# Altium footprint library Battery.PcbLib: 59 footprints (part 1 of 4)
Each footprint in its own frame and in the unit in brackets; x right, y up, seen from the top. Pads: shape width x height; smd on the part's side, far side on the other; paste and mask are expansions set on the pad; w line width, h text height; cw(c..) or ccw(c..) is an arc to the next point about the centre after c.
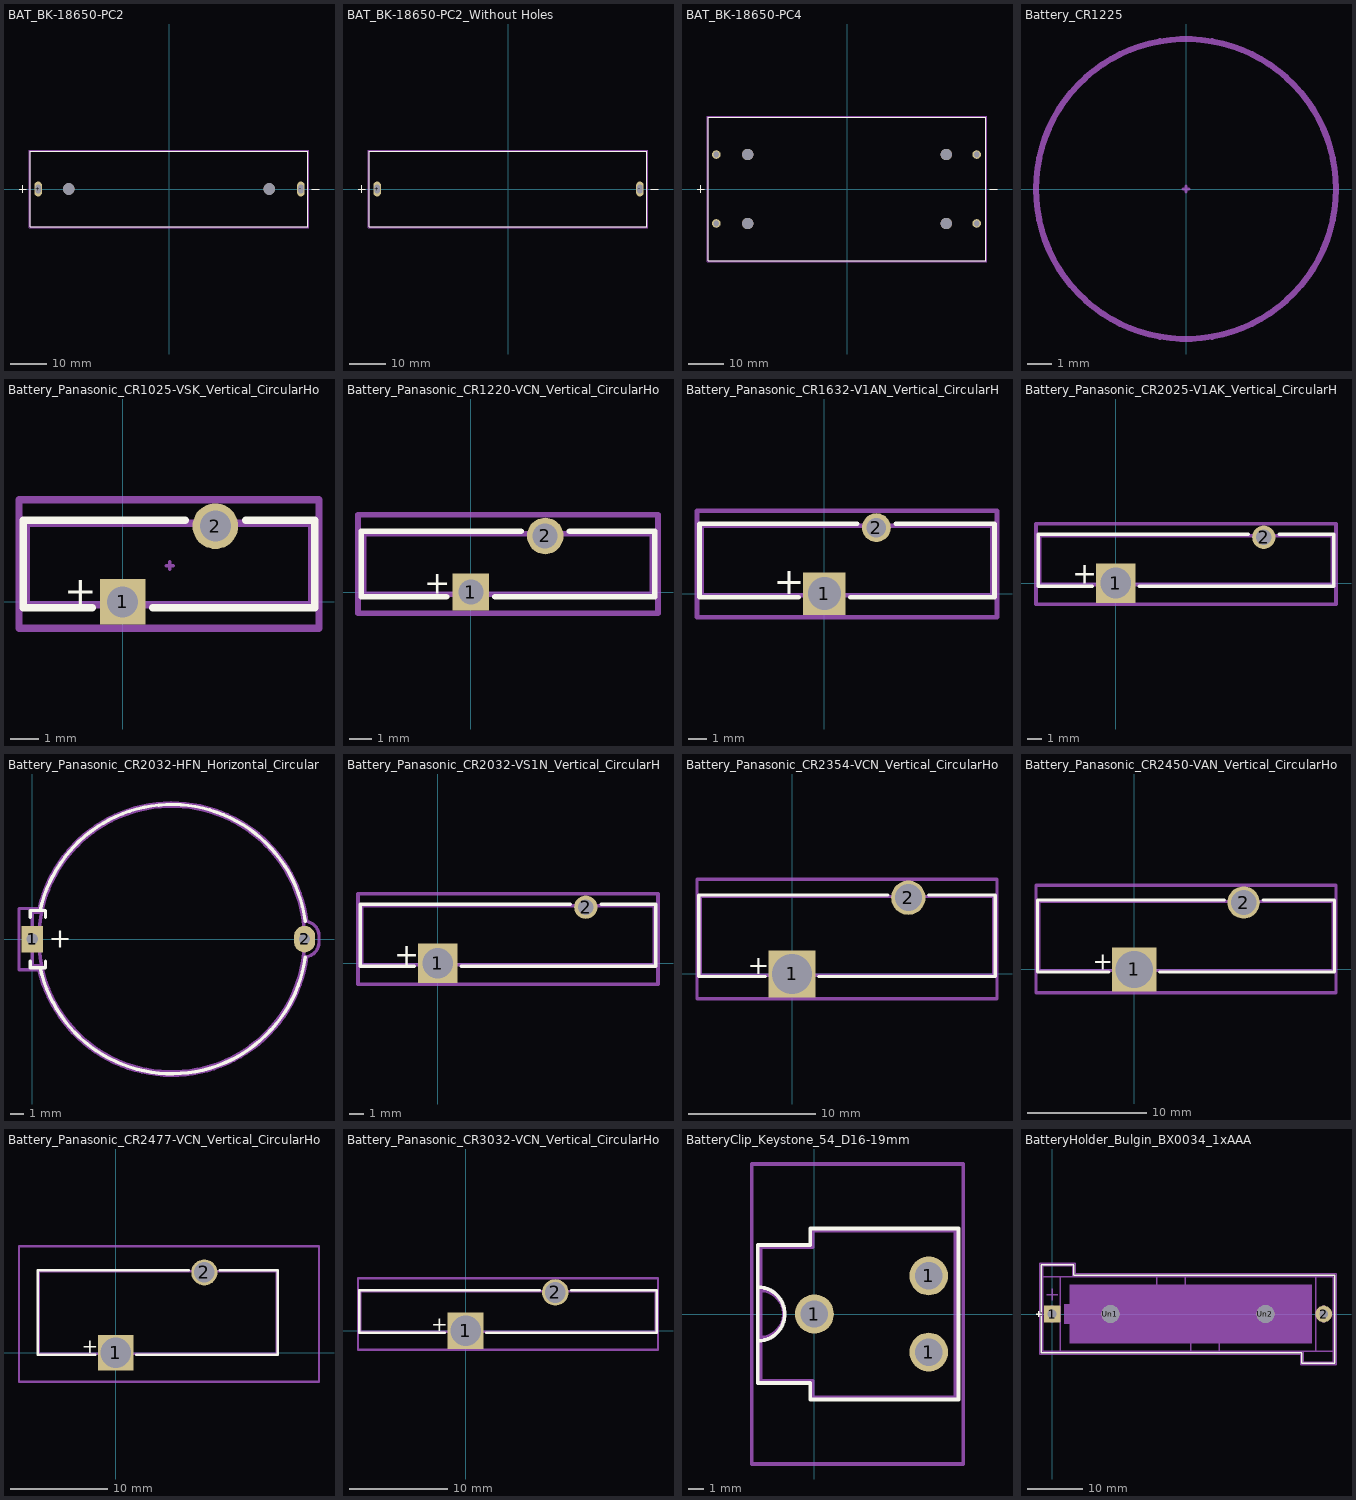
[diagram p0: the footprints below, top view; thin cyan lines are the x and y axes]

## BAT_BK-18650-PC2 [mm]
pads (4):
  rrect100% 2.07x4.14 hole 2.4 slot 1.38 at 0 deg: +(-36.3,0) -(36.6,0)
  round 3.2 hole 3.2: Un1(-27.805,0) Un2(27.81,0)
F.SilkS:
  lines w0.254: -41.63,0 -39.63,0 ; -40.63,-1 -40.63,1 ; 39.63,0 41.63,0 ; -38.48,-10.49 38.48,-10.49 38.48,10.49 -38.48,10.49 -38.48,-10.49
Top Assembly:
  lines w0.254: -41.63,0 -39.63,0 ; -40.63,-1 -40.63,1 ; 39.63,0 41.63,0 ; -38.48,-10.49 38.48,-10.49 38.48,10.49 -38.48,10.49 -38.48,-10.49
Top Courtyard:
  lines w0.254: -38.73,-10.74 38.73,-10.74 38.73,10.74 -38.73,10.74 -38.73,-10.74

## BAT_BK-18650-PC2_Without Holes [mm]
pads (2):
  rrect100% 2.07x4.14 hole 2.4 slot 1.38 at 0 deg: +(-36.3,0) -(36.6,0)
F.SilkS:
  lines w0.254: -41.63,0 -39.63,0 ; -40.63,-1 -40.63,1 ; 39.63,0 41.63,0 ; -38.48,-10.49 -38.48,10.49 38.48,10.49 38.48,-10.49 -38.48,-10.49
Top Assembly:
  lines w0.254: -41.63,0 -39.63,0 ; -40.63,-1 -40.63,1 ; 39.63,0 41.63,0 ; -38.48,-10.49 -38.48,10.49 38.48,10.49 38.48,-10.49 -38.48,-10.49
Top Courtyard:
  lines w0.254: -38.73,-10.74 -38.73,10.74 38.73,10.74 38.73,-10.74 -38.73,-10.74

## BAT_BK-18650-PC4 [mm]
pads (8):
  round 2.4 hole 1.6: 1+(-36.6,9.65) 1-(36.3,9.65) 2+(-36.6,-9.65) 2-(36.3,-9.65)
  round 3.2 hole 3.2: Un1(-27.81,9.65) Un2(-27.81,-9.65) Un3(27.81,9.65) Un4(27.81,-9.65)
F.SilkS:
  lines w0.254: -42,0 -40,0 ; -41,-1 -41,1 ; 40,0 42,0 ; -38.85,-20.105 -38.85,20.105 38.85,20.105 38.85,-20.105 -38.85,-20.105
Top Assembly:
  lines w0.254: -42,0 -40,0 ; -41,-1 -41,1 ; 40,0 42,0 ; -38.85,-20.105 -38.85,20.105 38.85,20.105 38.85,-20.105 -38.85,-20.105
Top Courtyard:
  lines w0.254: -39.1,-20.355 -39.1,20.355 39.1,20.355 39.1,-20.355 -39.1,-20.355

## Battery_CR1225 [mm]
Top Component Center:
  lines w0.127: -0.127,0 0.127,0 ; 0,-0.127 0,0.127
Top Assembly:
  circle w0.254: c0,0 r6.25
Top Designator:
  text ".Designator" at -7.618,-0.508 h1.52
3D body "Battery_CR1225.step": height 2.5, standoff 0, extent -6.25,-6.238 6.25,6.238

## Battery_Panasonic_CR1025-VSK_Vertical_CircularHoles [mm]
pads (2):
  rect 1.6x1.6 hole 1.09: 1(0,0)
  round 1.6 hole 1.09: 2(3.25,2.65)
F.SilkS:
  lines w0.254: -1.06,-0.21 -3.485,-0.21 -3.485,2.86 2.19,2.86 ; 1.06,-0.21 6.735,-0.21 6.735,2.86 4.31,2.86
  text "+" at -2.038,-0.078 h1
Top Component Center:
  lines w0.127: 1.524,1.27 1.778,1.27 ; 1.651,1.143 1.651,1.397
Top Assembly:
  lines w0.254: -3.375,-0.1 -3.375,2.75 6.625,2.75 6.625,-0.1 -3.375,-0.1
  text "'.Designator'" at -2.422,0.46 h1
Top Courtyard:
  lines w0.254: -3.63,-0.93 -3.63,3.58 6.88,3.58 6.88,-0.93 -3.63,-0.93
Top Designator:
  text ".Designator" at -5.993,0.817 h1.52

## Battery_Panasonic_CR1220-VCN_Vertical_CircularHoles [mm]
pads (2):
  rect 1.6x1.6 hole 1.09: 1(0,0)
  round 1.6 hole 1.09: 2(3.25,2.45)
F.SilkS:
  lines w0.254: -4.785,-0.21 -4.785,2.66 2.19,2.66 ; -4.78,-0.21 -1.06,-0.21 ; 1.06,-0.21 8.035,-0.21 8.035,2.66 4.31,2.66
  text "+" at -2.038,-0.078 h1
Top Assembly:
  lines w0.254: -4.675,-0.1 -4.675,2.55 7.925,2.55 7.925,-0.1 -4.675,-0.1
  text "'.Designator'" at -2.422,0.36 h1
Top Courtyard:
  lines w0.254: -4.93,-0.93 -4.93,3.38 8.18,3.38 8.18,-0.93 -4.93,-0.93
Top Designator:
  text ".Designator" at -5.993,0.717 h1.52

## Battery_Panasonic_CR1632-V1AN_Vertical_CircularHoles [mm]
pads (2):
  rect 2.35x2.35 hole 1.82: 1(0,0)
  round 1.6 hole 1.09: 2(2.875,3.65)
F.SilkS:
  lines w0.254: -1.43,-0.21 -6.91,-0.21 -6.91,3.86 1.81,3.86 ; 1.44,-0.21 9.41,-0.21 9.41,3.86 3.94,3.86
  text "+" at -2.803,-0.043 h1.5
Top Assembly:
  lines w0.254: -6.8,-0.1 9.3,-0.1 9.3,3.75 -6.8,3.75 -6.8,-0.1
  text "'.Designator'" at -2.797,0.96 h1
Top Courtyard:
  lines w0.254: -7.05,-1.3 9.55,-1.3 9.55,4.58 -7.05,4.58 -7.05,-1.3
Top Designator:
  text ".Designator" at -6.368,1.132 h1.52

## Battery_Panasonic_CR2025-V1AK_Vertical_CircularHoles [mm]
pads (2):
  rect 2.7x2.7 hole 2.12: 1(0,0)
  round 1.6 hole 1.09: 2(10.17,3.15)
F.SilkS:
  lines w0.254: -1.61,-0.21 -5.335,-0.21 -5.335,3.36 9.11,3.36 ; 1.61,-0.21 14.985,-0.21 14.985,3.36 11.23,3.36
  text "+" at -2.993,-0.043 h1.5
Top Assembly:
  lines w0.254: -5.225,-0.1 14.875,-0.1 14.875,3.25 -5.225,3.25 -5.225,-0.1
  text "'.Designator'" at 0.778,1.16 h1
Top Courtyard:
  lines w0.254: -5.48,-1.45 15.13,-1.45 15.13,4.08 -5.48,4.08 -5.48,-1.45
Top Designator:
  text ".Designator" at -2.793,0.807 h1.52

## Battery_Panasonic_CR2032-HFN_Horizontal_CircularHoles [mm]
pads (2):
  rect 1.6x2 hole 0.85: 1(0,0)
  rrect100% 1.6x2 hole 0.85: 2(20.5,0)
F.SilkS:
  lines w0.254: -0.15,-1.65 -0.15,-2.15 1,-2.15 1,-1.65 ; -0.15,1.65 -0.15,2.15 1,2.15 1,1.65 ; 0.59,-2.15 ccw(c10.5,0.003) 20.55,-1.35 ; 0.59,2.15 cw(c10.5,-0.003) 20.55,1.35
  text "+" at 1.239,-0.666 h1.5
Top Assembly:
  circle w0.254: c10.5,0 r10
  lines w0.254: 0.7,-2 0,-2 0,2 0.7,2
  text "'.Designator'" at 6.453,-0.84 h1
Top Courtyard:
  lines w0.254: -1,-2.3 -1,2.3 0.5,2.3 cw(c10.502,-0.002) 20.68,1.32 cw(c20.497,0.242) 21.59,0.25 21.59,-0.25 cw(c20.497,-0.242) 20.68,-1.32 cw(c10.497,0.008) 0.49,-2.3 -1,-2.3
Top Designator:
  text ".Designator" at 2.677,-0.508 h1.52

## Battery_Panasonic_CR2032-VS1N_Vertical_CircularHoles [mm]
pads (2):
  rect 2.7x2.7 hole 2.12: 1(0,0)
  round 1.6 hole 1.09: 2(10.17,3.85)
F.SilkS:
  lines w0.254: -1.61,-0.21 -5.335,-0.21 -5.335,4.06 9.11,4.06 ; 1.61,-0.21 14.985,-0.21 14.985,4.06 11.23,4.06
  text "+" at -2.993,-0.093 h1.5
Top Assembly:
  lines w0.254: -5.225,-0.1 14.875,-0.1 14.875,3.95 -5.225,3.95 -5.225,-0.1
  text "'.Designator'" at 0.778,1.16 h1
Top Courtyard:
  lines w0.254: -5.48,-1.45 15.13,-1.45 15.13,4.78 -5.48,4.78 -5.48,-1.45
Top Designator:
  text ".Designator" at -2.793,1.157 h1.52

## Battery_Panasonic_CR2354-VCN_Vertical_CircularHoles [mm]
pads (2):
  rect 3.7x3.7 hole 3.12: 1(0,0)
  round 2.7 hole 2.12: 2(9.15,6)
F.SilkS:
  lines w0.254: -2.11,-0.21 -7.335,-0.21 -7.335,6.21 7.54,6.21 ; 2.11,-0.21 15.992,-0.21 ; 10.76,6.21 15.985,6.21 15.985,-0.21
  text "+" at -3.493,-0.043 h1.5
Top Assembly:
  lines w0.254: -7.225,-0.1 15.875,-0.1 15.875,6.1 -7.225,6.1 -7.225,-0.1
  text "'.Designator'" at 0.278,2.16 h1
Top Courtyard:
  lines w0.254: -7.48,-1.95 16.13,-1.95 16.13,7.45 -7.48,7.45 -7.48,-1.95
Top Designator:
  text ".Designator" at -3.293,2.242 h1.52

## Battery_Panasonic_CR2450-VAN_Vertical_CircularHoles [mm]
pads (2):
  rect 3.7x3.7 hole 3.12: 1(0,0)
  round 2.7 hole 2.12: 2(9.15,5.6)
F.SilkS:
  lines w0.254: -2.11,-0.21 -8.085,-0.21 -8.085,5.81 7.54,5.81 ; 2.11,-0.21 16.735,-0.21 16.735,5.81 10.76,5.81
  text "+" at -3.493,-0.043 h1.5
Top Assembly:
  lines w0.254: -7.975,-0.1 -7.975,5.7 16.625,5.7 16.625,-0.1 -7.975,-0.1
  text "'.Designator'" at 0.278,1.96 h1
Top Courtyard:
  lines w0.254: -8.23,-1.95 -8.23,7.05 16.88,7.05 16.88,-1.95 -8.23,-1.95
Top Designator:
  text ".Designator" at -3.293,2.042 h1.52

## Battery_Panasonic_CR2477-VCN_Vertical_CircularHoles [mm]
pads (2):
  rect 3.7x3.7 hole 3.12: 1(0,0)
  round 2.7 hole 2.12: 2(9.15,8.3)
F.SilkS:
  lines w0.254: -2.11,-0.21 -8.085,-0.21 -8.085,8.51 7.54,8.51 ; 2.11,-0.21 16.735,-0.21 16.735,8.51 10.76,8.51
  text "+" at -3.493,-0.043 h1.5
Top Assembly:
  lines w0.254: -7.975,-0.1 -7.975,8.4 16.625,8.4 16.625,-0.1 -7.975,-0.1
  text "'.Designator'" at 0.278,3.31 h1
Top Courtyard:
  lines w0.254: -10,-3 -10,11 21,11 21,-3 -10,-3
Top Designator:
  text ".Designator" at -2.118,3.492 h1.52

## Battery_Panasonic_CR3032-VCN_Vertical_CircularHoles [mm]
pads (2):
  rect 3.7x3.7 hole 3.12: 1(0,0)
  round 2.7 hole 2.12: 2(9.15,3.9)
F.SilkS:
  lines w0.254: -2.11,-0.21 -10.835,-0.21 -10.835,4.11 7.54,4.11 ; 2.11,-0.21 19.485,-0.21 19.485,4.11 10.76,4.11
  text "+" at -3.493,-0.043 h1.5
Top Assembly:
  lines w0.254: -10.725,-0.1 -10.725,4 19.375,4 19.375,-0.1 -10.725,-0.1
  text "'.Designator'" at 0.278,1.11 h1
Top Courtyard:
  lines w0.254: -10.98,-1.95 -10.98,5.35 19.63,5.35 19.63,-1.95 -10.98,-1.95
Top Designator:
  text ".Designator" at -3.293,1.192 h1.52

## BatteryClip_Keystone_54_D16-19mm [mil]
pads (3):
  round 102 hole 72: 1(0,0) 1(300,-100) 1(300,100)
F.SilkS:
  lines w10: -148.82,-70.87 ccw(c-148.82,0) -148.82,70.87 ; -148.82,-181.1 -11.02,-181.1 -11.02,-224.41 377.95,-224.41 377.95,224.41 -11.02,224.41 -11.02,181.1 -148.82,181.1 -148.82,-181.1
Top Assembly:
  lines w10: -142,-62 ccw(c-142,0) -142,62 ; -142,-175 -5,-175 -5,-219 370,-219 370,219 -5,219 -5,175 -142,175 -142,-175
  text "'.Designator'" at -41.21,-33.08 h39.37
Top Courtyard:
  lines w10: -164.57,-393.7 390.55,-393.7 390.55,393.7 -164.57,393.7 -164.57,-393.7
Top Designator:
  text ".Designator" at -186.91,-19.99 h60
3D body "BatteryClip_Keystone_54_D16-19mm.step": height 661.85, standoff -120, extent -178.69,-322.35 371.35,326.78

## BatteryHolder_Bulgin_BX0034_1xAAA [mm]
pads (4):
  rrect8% 3x3 hole 1.6: 1(0,0)
  round 3 hole 1.6: 2(48.9,0)
  round 3.2 hole 3.2: Un1(10.5,0) Un2(38.4,0)
F.SilkS:
  lines w0.254: -2.9,0 -1.9,0 ; -2.4,-0.5 -2.4,0.5 ; -1.95,-0.3 -1.95,-7 44.97,-7 44.97,-8.9 50.85,-8.9 50.85,7 3.93,7 3.93,8.9 -1.95,8.9 -1.95,0.3
Top Assembly:
  circle w0.254: c10.5,0 r3.4
  circle w0.254: c38.4,0 r3.4
  lines w0.254: -1.7,6.75 50.6,6.75 50.6,-8.65 45.22,-8.65 45.22,-6.75 ; -1,3.5 1,3.5 ; 0,2.5 0,4.5 ; 1.48,-6.75 1.48,6.75 ; 3.68,6.75 3.68,8.65 -1.7,8.65 -1.7,-6.75 50.6,-6.75 ; 18.84,6.75 18.84,3.69 23.94,3.69 23.94,6.75 ; 24.96,-6.75 24.96,-3.69 30.06,-3.69 30.06,-6.75 ; 47.42,-6.75 47.42,6.75
  text "'.Designator'" at 20.403,-0.84 h1
Top Courtyard:
  lines w0.254: -2.2,-7.25 -2.2,9.15 4.18,9.15 4.18,7.25 51.1,7.25 51.1,-9.15 44.72,-9.15 44.72,-7.25 -2.2,-7.25
Top Designator:
  text ".Designator" at 16.482,-0.508 h1.52
Cmts.User:
  region: 46.7,-5.25 3.2,-5.25 3.2,-1.75 2.2,-1.75 2.2,1.75 3.2,1.75 3.2,5.25 46.7,5.25
  lines w0.254: -1,3.5 1,3.5 ; 0,2.5 0,4.5 ; 24.096,-0.354 24.804,0.354 ; 24.096,0.354 24.804,-0.354 ; -0.25,-1.4 -0.25,1.4 0.25,1.4 0.25,-1.4 -0.25,-1.4 ; 48.65,-1.4 48.65,1.4 49.15,1.4 49.15,-1.4 48.65,-1.4